# Altium schematic symbol library Logic - Gates and Inverters.SchLib: 1 symbol
Pins are listed as number, name and electrical type; pins without a type are passive.

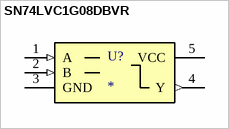
[diagram p0: symbol SN74LVC1G08DBVR]

## SN74LVC1G08DBVR
designator U?
IC GATE AND 1CH 2-INP SOT23-5; Supplier 1: Digi-Key; Supplier 2: Mouser; Supplier Part Number 1: 296-11601-1-ND; Supplier Part Number 2: 595-SN74LVC1G08DBVR
footprint TI_SOT-23-5 (SOT-23 - 1.45 mm max height)
pins: 1 A (in), 2 B (in), 3 GND (power), 4 Y (out), 5 VCC (power)